# EAGLE library part OPAMP_DUAL (library QuantumOptics)
Dual Op Amp, common pinouts. Based on http://www.analog.com/static/imported-files/data_sheets/AD8651_8652.pdf
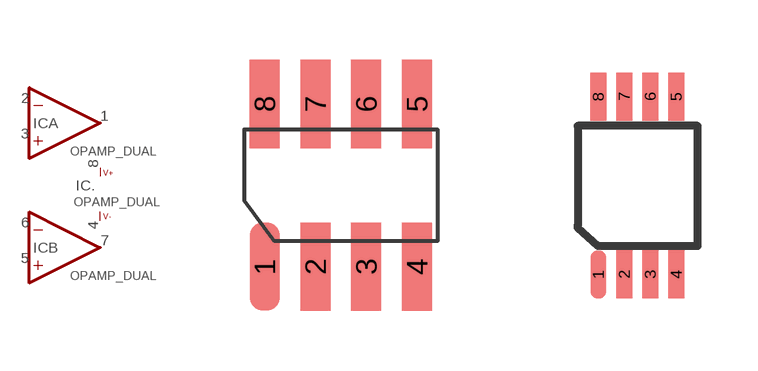
[diagram p106: symbol with the pads of SOIC-8; footprints SOIC-8, MSOP8]

Designator prefix IC; gates A=OPAMP B=OPAMP .=PWR+-

## OPAMP_DUAL-SOIC8  [SOIC-8]
1  A:OUT  out
2  A:-IN  in
3  A:+IN  in
4  .:V-
5  B:+IN  in
6  B:-IN  in
7  B:OUT  out
8  .:V++

## OPAMP_DUAL-MSOP8  [MSOP8]
Pads as for SOIC-8

## Footprint SOIC-8 (pad centres in mm)
SOIC-8 (AKA SO-8), pads on 0.050" grid.
smd 0.75 x 2.2: 1 -1.27,-2.032; 2 0,-2.032; 3 1.27,-2.032; 4 2.54,-2.032; 5 2.54,2.032; 6 1.27,2.032; 7 0,2.032; 8 -1.27,2.032

## Footprint MSOP8 (pad centres in mm)
MSOP-8, A.K.A. RM-8. Use 0.025" grid.
smd 0.4 x 1.2: 1 -0.65,-1.905; 2 0,-1.905; 3 0.65,-1.905; 4 1.3,-1.905; 5 1.3,2.54; 6 0.65,2.54; 7 0,2.54; 8 -0.65,2.54